# Altium schematic symbol library Connector.SchLib: 4 symbols
Pins are listed as number, name and electrical type; pins without a type are passive.

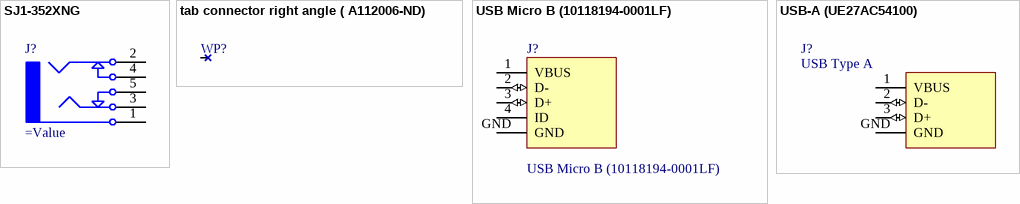
[diagram p0: symbols SJ1-352XNG to USB-A (UE27AC54100)]

## SJ1-352XNG
designator J?
3.5mm TRS Phone Jack With Switches
footprint 3.5 audio barrel jack (SJ1-352XNG)
pins: 1, 2, 3, 4, 5

## tab connector right angle ( A112006-ND)
designator WP?, comment Wire Pad  (value not drawn)
Wire Pad, 1 Pin, Through Hole, Vertical
footprint TAB connector right angle
pins: 0

## USB Micro B (10118194-0001LF)
designator J?
Female Micro USB Type B
footprint USB-MICRO-B (10118194-0001LF) (Round Holes; USB - micro B USB 2.0 Receptacle Connector 5 Position Surface Mount, Right Angle, Horizontal)
pins: 1 VBUS (power), 2 D- (io), 3 D+ (io), 4 ID, GND (power)

## USB-A (UE27AC54100)
designator J?, comment USB Type A
Female USB Type A Connector
footprint USB-A-ThroughHole
pins: 1 VBUS (power), 2 D- (io), 3 D+ (io), GND (power)